# Altium footprint library CON1_709296001004006.PcbLib: 1 footprints
Each footprint in its own frame and in the unit in brackets; x right, y up, seen from the top. Pads: shape width x height; smd on the part's side, far side on the other; paste and mask are expansions set on the pad; w line width, h text height; cw(c..) or ccw(c..) is an arc to the next point about the centre after c.
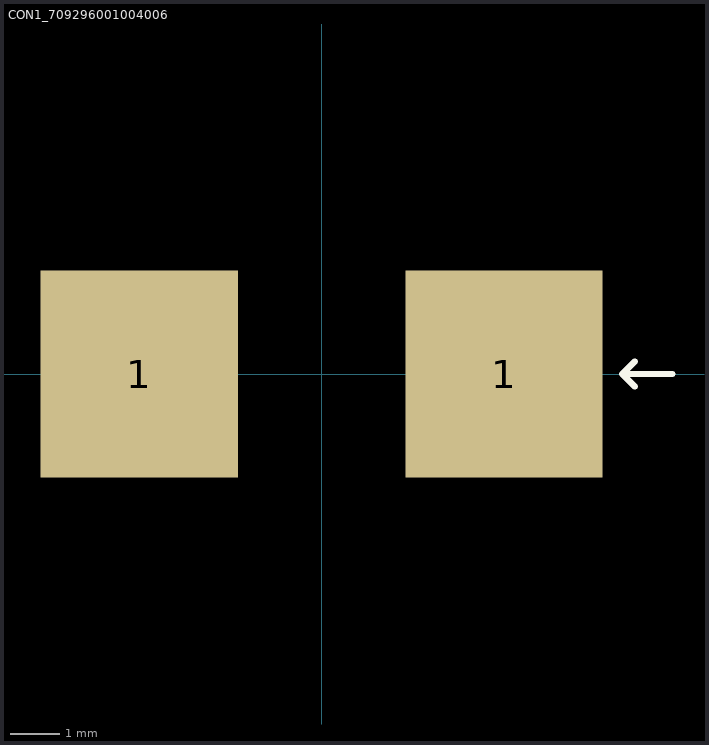
[diagram p0: the footprint, top view; thin cyan lines are the x and y axes]

## CON1_709296001004006 [mm] "CONN SSL POKE-IN CONT 12-20AWG"
pads (2):
  rect 4x4.2 smd mask+0.076: 1(-3.7,0) 1(3.7,0)
Top Overlay:
  lines w0.127: 6.35,-0.254 6.096,0 ; 6.35,0.254 6.096,0 ; 7.112,0 6.096,0
3D body "AVX Interconnect-70-9296-001-004-006.STEP": height 4, standoff 0, extent -5.5,-2 5.5,2